# EAGLE library part CAY16-681J8LF (library axios_components)
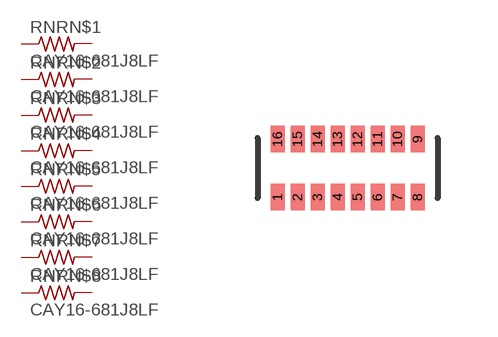
[diagram p8: symbol with the pads of CAY16-681J8LF; footprint CAY16-681J8LF]

Designator prefix RN; gates RN$1=R-US RN$2=R-US RN$3=R-US RN$4=R-US RN$5=R-US RN$6=R-US RN$7=R-US RN$8=R-US

## CAY16-681J8LF  [CAY16-681J8LF]
1  RN$1:1  pas
2  RN$2:1  pas
3  RN$3:1  pas
4  RN$4:1  pas
5  RN$5:1  pas
6  RN$6:1  pas
7  RN$7:1  pas
8  RN$8:1  pas
9  RN$8:2  pas
10  RN$7:2  pas
11  RN$6:2  pas
12  RN$5:2  pas
13  RN$4:2  pas
14  RN$3:2  pas
15  RN$2:2  pas
16  RN$1:2  pas

## Footprint CAY16-681J8LF (pad centres in mm)
smd 0.35 x 0.65: 1 -1.75,-0.725; 2 -1.25,-0.725; 3 -0.75,-0.725; 4 -0.25,-0.725; 5 0.25,-0.725; 6 0.75,-0.725; 7 1.25,-0.725; 8 1.75,-0.725; 9 1.75,0.725; 10 1.25,0.725; 11 0.75,0.725; 12 0.25,0.725; 13 -0.25,0.725; 14 -0.75,0.725; 15 -1.25,0.725; 16 -1.75,0.725